# Altium footprint library Capacitors.PcbLib: 21 footprints (part 2 of 2)
Each footprint in its own frame and in the unit in brackets; x right, y up, seen from the top. Pads: shape width x height; smd on the part's side, far side on the other; paste and mask are expansions set on the pad; w line width, h text height; cw(c..) or ccw(c..) is an arc to the next point about the centre after c.
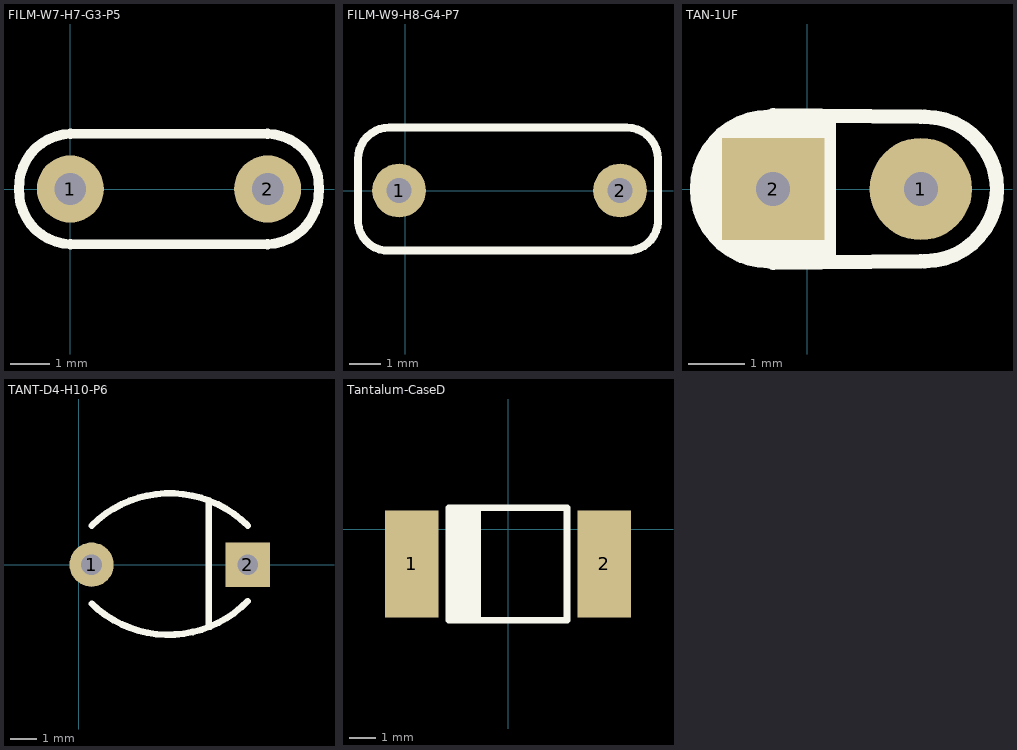
[diagram p1: the footprints below, top view; thin cyan lines are the x and y axes]

## FILM-W7-H7-G3-P5 [mm]
pads (2):
  round 1.7 hole 0.8: 1(0,0) 2(5,0)
Top Overlay:
  lines w0.25: 0,-1.4 5,-1.4 ; 0,1.4 5,1.4
  lines w0.254: 0,-1.4 cw(c0.05,-0.05) -1.3,0 cw(c0.05,0.05) 0,1.4 ; 5,-1.4 ccw(c4.95,-0.05) 6.3,0 ccw(c4.95,0.05) 5,1.4
3D body "Capacitor_Film_W7-H7_G3-P5.X_T": height 8, standoff -4, extent -1,-1.25 6,1.25

## FILM-W9-H8-G4-P7 [mm]
pads (2):
  round 1.7 hole 0.8: 1(-0.2,0) 2(6.8,0)
Top Overlay:
  pour cut-out: 6.032,-0.953
  lines w0.25: -1.5,-1 -1.5,1 ; -0.5,-1.9 7,-1.9 ; -0.5,2 7,2 ; 8,-1 8,1
  lines w0.254: -1.5,-1 ccw(c-0.55,-0.95) -0.5,-1.9 ; -1.5,1 cw(c-0.5,1) -0.5,2 ; 7,-1.9 ccw(c7.05,-0.95) 8,-1 ; 7,2 cw(c7,1) 8,1
3D body "Capacitor-Film-W9-H8-G4-P7.X_T": height 8.9, standoff -5, extent -1.2,-2 7.8,2

## TAN-1UF [mm]
pads (2):
  round 1.8 hole 0.6: 1(2,0)
  rect 1.8x1.8 hole 0.6: 2(-0.6,0)
Top Overlay:
  region: 0.5,1.2 0.5,-1.3 -1.2,-1.3 -1.94,-0.56 -1.94,0.56 -1.23,1.27 0.37,1.27 0.4,1.3
  lines w0.254: -0.67,-1.27 cw(c-0.67,0) -1.94,0 cw(c-0.67,0) -0.67,1.27 ; -0.6,-1.3 2,-1.27 ; -0.6,1.3 2,1.27 ; 2.07,-1.27 ccw(c2.07,0) 3.34,0 ccw(c2.07,0) 2.07,1.27
Border:
  lines w0.1: -0.318,0 0.318,0 ; 0,-0.318 0,0.318
3D body "User Library-CAP_TANT_0_1.STEP": height 10.5, standoff -0.5, extent -1.474,-2.3 2.874,2.049

## TANT-D4-H10-P6 [mm]
pads (2):
  round 1.7 hole 0.8: 1(0.5,0)
  rect 1.7x1.7 hole 0.8: 2(6.5,0)
Top Overlay:
  lines w0.25: 5,-2.3 5,2.4
  lines w0.254: 0.5,-1.5 ccw(c3.45,1.55) 6.5,-1.4 ; 0.5,1.5 cw(c3.5,-1.5) 6.5,1.5
3D body "Capacitor_Tant_D5-H10-P6.X_T": height 11.84, standoff -3.89, extent 0.2,-1.5 6.8,1.495

## Tantalum-CaseD [mm]
pads (2):
  rect 2x4 smd: 1(-3.6,-1.3) 2(3.6,-1.3)
Top Overlay:
  rectangle: -2.2,-3.4 -1,0.8
  lines w0.254: -2.2,-3.4 -2.2,0.8 2.2,0.8 2.2,-3.4 -2.2,-3.4
3D body "User Library-CaseD.X_B": height 2.9, standoff 0, extent -3.846,-3.45 3.9,0.85